# EAGLE library part LM1881MX/NOPB (library tms-rgb)
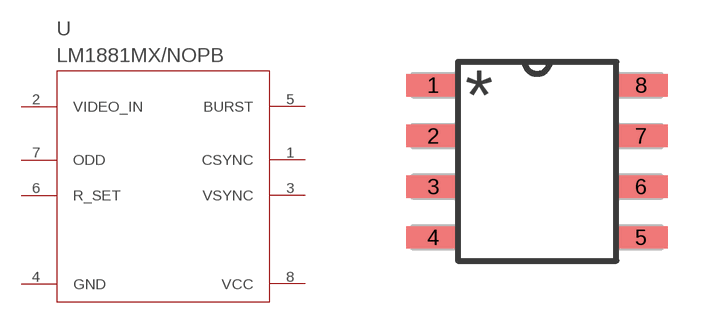
[diagram p2: symbol with the pads of LM1881; footprint LM1881]

Designator prefix U

## LM1881MX/NOPB (BUILT_BY: EMA_UL_Team; MANUFACTURER_PART_NUMBER: LM1881MX/NOPB; SOURCELIBRARY: National_2014-06-20; VENDOR: Texas Instruments)  [LM1881]
1  CSYNC  out
2  VIDEO_IN  in
3  VSYNC  out
4  GND  pwr
5  BURST  out
6  R_SET  pas
7  ODD  out
8  VCC  pwr

## Footprint LM1881 (pad centres in mm)
smd 1.333 x 0.559: 1 -2.597,1.905; 2 -2.597,0.635; 3 -2.597,-0.635; 4 -2.597,-1.905; 5 2.597,-1.905; 6 2.597,-0.635; 7 2.597,0.635; 8 2.597,1.905